# Altium schematic symbol library T5_Turn_Down_For_Watt.SchLib: 71 symbols (part 3 of 3)
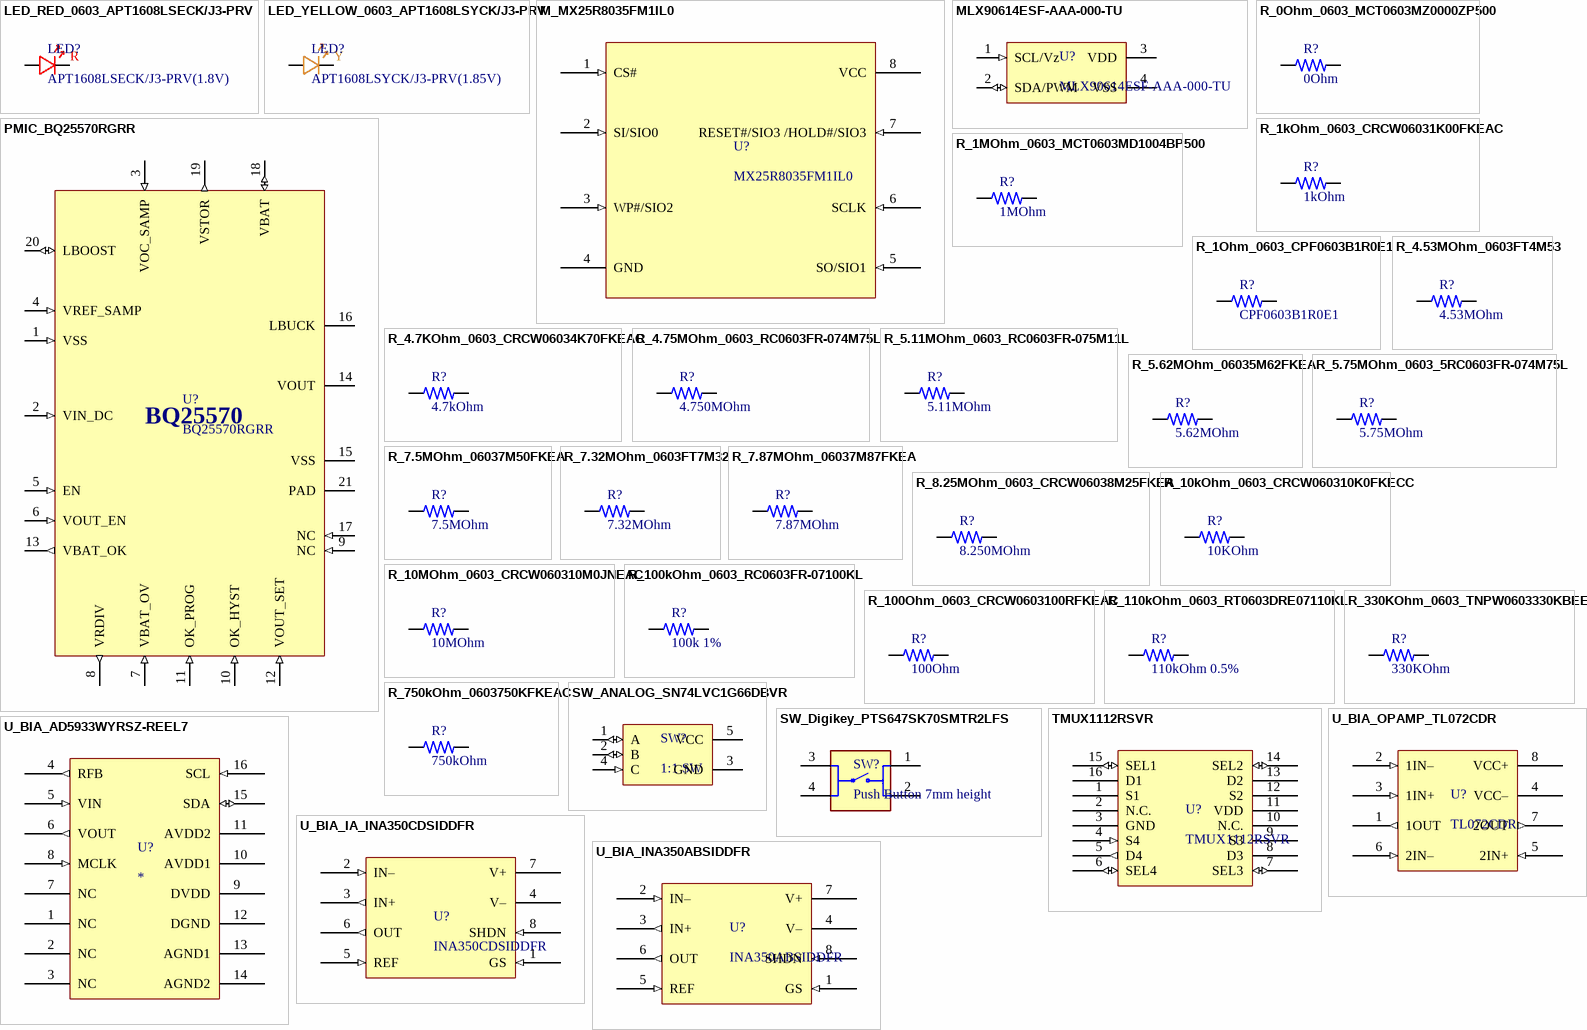
[diagram p3: symbols LED_RED_0603_APT1608LSECK/J3-PRV to U_BIA_OPAMP_TL072CDR]

## SW_ANALOG_SN74LVC1G66DBVR
designator SW?, comment 1:1 SW
1 Circuit IC Switch 1:1 10 Ohm SOT-23-5; Manufacturer: Texas Instruments; Manufacturer Part Number: SN74LVC1G66DBVR; Output Current: 50mA; Max Supply Voltage: 5.5V; Min Supply Voltage: 1.65V; Number of Channels: 1; Bandwidth: 195MHz; Nominal Supply Current: 1uA; On-State Resistance: 10R; Operating Supply Current: 10uA; Turn-On Delay Time: 4.2ns; Turn-Off Delay Time: 5ns; Throw Configuration: SPST; Supply Type: Single; Polarity: Non-Inverting; Propagation Delay: 600ps; Supplier 1: Digi-Key; RoHS: Yes; Category: Interface ICs; Stock 1: 52083; Pricing 1: 1=0.48000, 10=0.36200, 25=0.32640, 100=0.22560, 250=0.18996, 500=0.15434, 1000=0.11872 (USD); Mount: Surface Mount; Case/Package: SOT-23; Number of Pins: 5; Weight: 0.000395oz; Contact Plating: Gold; Min Operating Temperature: -40°C; Max Operating Temperature: 85°C; Packaging: Tape and Reel; Number of Inputs: 1; Number of Outputs: 1; Package Quantity: 3000; Max Supply Current: 10uA; Termination: SMD/SMT; Number of Bits: 1; High Level Output Current: 50mA; Low Level Output Current: 50mA; Series: 74LVC; Supply Current: 1uA; Length: 3.05mm; Width: 1.75mm; Height: 1.3mm; Radiation Hardening: No; REACH SVHC: No SVHC; Lead Free: Lead Free; RoHS Compliant: Yes; ComponentLink1URL: https://datasheet.ciiva.com/1582/1768037-1582385.pdf?src-supplier=Farnell; ComponentLink1Description: https://datasheet.ciiva.com/1582/1768037-1582385.pdf?src-supplier=Farnell; ComponentLink2URL: https://datasheet.ciiva.com/27049/756828-27049785.pdf?src-supplier=Jameco; ComponentLink2Description: https://datasheet.ciiva.com/27049/756828-27049785.pdf?src-supplier=Jameco; ComponentLink3URL: https://datasheet.ciiva.com/15127/getdatasheetpartid-187019-15127385.pdf?src-supplier=Verical; ComponentLink3Description: https://datasheet.ciiva.com/15127/getdatasheetpartid-187019-15127385.pdf?src-supplier=Verical; ComponentLink4URL: https://datasheet.ciiva.com/41461/001187213-da-01-en-ic-switch-1-sn74lvc1g66dbvr-sot-23-5-tid-41461873.pdf?src-supplier=Conrad; ComponentLink4Description: https://datasheet.ciiva.com/41461/001187213-da-01-en-ic-switch-1-sn74lvc1g66dbvr-sot-23-5-tid-41461873.pdf?src-supplier=Conrad; ComponentLink5URL: https://datasheet.ciiva.com/1514/1856046-1514552.pdf?src-supplier=Element14; ComponentLink5Description: https://datasheet.ciiva.com/1514/1856046-1514552.pdf?src-supplier=Element14; ComponentLink6URL: https://datasheet.ciiva.com/1514/1856046-1514551.pdf?src-supplier=Element14; ComponentLink6Description: https://datasheet.ciiva.com/1514/1856046-1514551.pdf?src-supplier=Element14; ComponentLink7URL: https://datasheet.ciiva.com/1669/sn74lvc1g66-1669420.pdf?src-supplier=Digi-Key; ComponentLink7Description: https://datasheet.ciiva.com/1669/sn74lvc1g66-1669420.pdf?src-supplier=Digi-Key; ComponentLink8URL: https://datasheet.ciiva.com/1669/sn74lvc1g66-1669419.pdf?src-supplier=Digi-Key; ComponentLink8Description: https://datasheet.ciiva.com/1669/sn74lvc1g66-1669419.pdf?src-supplier=Digi-Key; ComponentLink9URL: https://datasheet.ciiva.com/1669/sn74lvc1g66-1669421.pdf?src-supplier=Digi-Key; ComponentLink9Description: https://datasheet.ciiva.com/1669/sn74lvc1g66-1669421.pdf?src-supplier=Digi-Key
footprint ANALOG_SW_TI_SOT95P280X145-5N (SOT23, 5-Leads, Body 2.90x2.80mm, Pitch 0.95mm, IPC Medium Density)
pins: 1 A (io) "Bidirectional signal to be switched", 2 B (io) "Bidirectional signal to be switched", 3 GND (power) "Ground pin", 4 C (in) "Controls the switch (L = OFF, H = ON)", 5 VCC (power) "Power pin"

## SW_Digikey_PTS647SK70SMTR2LFS
designator SW?, comment Push Button 7mm height
Switch Tactile N.O. SPST Round Button Gull Wing 0.05A 12VDC 100000Cycles 2.45N SMD T/R; Manufacturer: ITT C&K; Manufacturer Part Number: PTS647SK70SMTR2LFS; Illumination Type: Non-Illuminated; Switch Function: Off-Mom; Actuator Type: Standard; Operating Force: 250gf; Switch Travel: 0.25mm; Ratings: IP40; Supplier 1: Digi-Key; RoHS: No; Category: Tactile Switches; Stock 1: 384316; Pricing 1: 1=0.21000, 10=0.20200, 25=0.19120, 100=0.17390, 250=0.16344, 500=0.14954 (USD); Mount: Surface Mount; Mechanical Life: 100000Cycles; Min Operating Temperature: -20°C; Max Operating Temperature: 70°C; Throw Configuration: SPST; Packaging: Cut Tape; Termination: Gull Wing; ComponentLink1URL: https://www.ckswitches.com/media/2567/pts647.pdf?src-supplier=Digi-Key; ComponentLink1Description: https://www.ckswitches.com/media/2567/pts647.pdf?src-supplier=Digi-Key
footprint SW_DIGIKEY
pins: 1, 2, 3, 4 24

## TMUX1112RSVR
designator U?
3-pA on-state leakage current, 5-V, 1: 1 (SPST), 4-channel precision switch (4 active high) 16-UQFN -40 to 125; Manufacturer: Texas Instruments; Supplier 1: Digi-Key; Manufacturer Part Number: TMUX1112RSVR; RoHS: Yes; Category: Interface ICs; Stock 1: 16202; Pricing 1: 1=3.34000, 10=3.00000, 25=2.83560, 100=2.45770, 250=2.33164, 500=2.09216, 1000=1.90240 (USD)
footprint QFN127P600-8N - duplicate1
pins: 1 S1 "Source pin 1. Can be an input or output.", 2 N.C. "No internal connection.", 3 GND "Ground (0 V) reference", 4 S4 (in) "Source pin 4. Can be an input or output.", 5 D4 (out) "Drain pin 4. Can be an input or output.", 6 SEL4 (io) "Logic control input 4. Controls channel 4 state as shown in Truth Tables.", 7 SEL3 (io) "Logic control input 3. Controls channel 3 state as shown in Truth Tables.", 8 D3 "Drain pin 3. Can be an input or output.", 9 S3 "Source pin 3. Can be an input or output.", 10 N.C. "No internal connection.", 11 VDD (power) "Positive power supply. This pin is the most positive power-supply potential. For reliable operation, connect a decoupling capacitor ranging from 0.1 μF to 10 μF between VDD and GND.", 12 S2 "Source pin 2. Can be an input or output.", 13 D2 "Drain pin 2. Can be an input or output.", 14 SEL2 (io) "Logic control input 2. Controls channel 2 state as shown in Truth Tables.", 15 SEL1 (io) "Logic control input 1. Controls channel 1 state as shown in Truth Tables.", 16 D1 "Drain pin 1. Can be an input or output."

## U_BIA_AD5933WYRSZ-REEL7
designator U?
Direct Digital Synthesizer 16.776MHz 1-DAC 12bit Serial (I2C) Automotive 16-Pin SSOP T/R; Manufacturer: Analog Devices; Manufacturer Part Number: AD5933WYRSZ-REEL7; Nominal Supply Current: 15mA; Resolution: 12b; Accuracy: 0.5%; Sampling Rate: 1MS/s; Supplier 1: Digi-Key; RoHS: Yes; Category: Digital to Analog Converters (DACs); Number of Pins: 16; Frequency: 16.776MHz; Operating Supply Current: 15mA; Lead Free: Contains Lead; RoHS Compliant: Yes; ComponentLink1URL: https://www.analog.com/media/en/technical-documentation/white-papers/tape-and-reel-packaging.pdf?src-supplier=Digi-Key; ComponentLink1Description: https://www.analog.com/media/en/technical-documentation/white-papers/tape-and-reel-packaging.pdf?src-supplier=Digi-Key
footprint AD5933YRSZ_SOP65P780X200-16N (SOP, 16-Leads, Body 6.20x5.30mm, Pitch 0.65mm, IPC Medium Density)
pins: 1 NC "No Connect", 2 NC "No Connect", 3 NC "No Connect", 4 RFB (out) "External Feedback Resistor. Connected from Pin 4 to Pin 5 and used to set the gain of the current-to-voltage", 5 VIN (in) "Input to Receive Transimpedance Amplifier. Presents a virtual earth voltage of VDD/2.", 6 VOUT (out) "Excitation Voltage Signal Output.", 7 NC "No Connect", 8 MCLK (in) "The master clock for the system is supplied by the user.", 9 DVDD (power) "Digital Supply Voltage.", 10 AVDD1 (power) "Analog Supply Voltage 1.", 11 AVDD2 (power) "Analog Supply Voltage 2.", 12 DGND (power) "Digital Ground.", 13 AGND1 (power) "Analog Ground 1.", 14 AGND2 (power) "Analog Ground 2.", 15 SDA (io) "I 2 C Data Input. Open-drain pins requiring 10 kΩ pull-up resistors to VDD", 16 SCL (in) "I 2 C Clock Input. Open-drain pins requiring 10 kΩ pull-up resistors to VDD."

## U_BIA_IA_INA350CDSIDDFR
designator U?, comment INA350CDSIDDFR
Tiny (2-mm × 2-mm), low-power (100 µA), selectable gain instrumentation amplifier 8-SOT-23-THIN -40 to 125; Manufacturer: Texas Instruments; Supplier 1: Digi-Key; Manufacturer Part Number: INA350CDSIDDFR; RoHS: No; Category: Amplifiers - Op Amps, Buffer, Instrumentation; Stock 1: 2781; Pricing 1: 1=0.65000, 10=0.55600, 25=0.51920, 100=0.41550, 250=0.38584, 500=0.32648, 1000=0.25228 (USD)
footprint BIA_INA350_SOT65P280X110-6N (SOT23, 6-Leads, Body 2.90x2.80mm, Pitch 0.65mm, IPC Medium Density)
pins: 1 GS (in) "Gain select – logic low (G = 10 for INA350ABS and G = 30 for INA350CDS), Gain select – logic high (G = 20 for INA350ABS and G = 50 for INA350CDS), Gain select – no connect (G = 20 for INA350ABS and G = 50 for INA350CDS)", 2 IN– (in) "Negative (inverting) input", 3 IN+ (out) "Positive (non-inverting) input", 4 V– (power) "Negative supply", 5 REF (in) "Reference input. This pin must be driven by a low impedance source.", 6 OUT (out) "Output", 7 V+ (power) "Positive supply", 8 SHDN (in) "Shutdown – logic high (device enabled), Shutdown – logic low (device disabled), Shutdown – no connect (device enabled)"

## U_BIA_INA350ABSIDDFR
designator U?, comment INA350ABSIDDFR
Tiny (2-mm × 2-mm), low-power (100 µA), selectable gain instrumentation amplifier 8-SOT-23-THIN -40 to 125; Manufacturer: Texas Instruments; Supplier 1: Digi-Key; Manufacturer Part Number: INA350ABSIDDFR; RoHS: No; Stock 1: 770; Pricing 1: 1=0.65000, 10=0.55600, 25=0.51920, 100=0.41550, 250=0.38584, 500=0.32648, 1000=0.25228 (USD)
footprint BIA_INA350_SOT65P280X110-6N (SOT23, 6-Leads, Body 2.90x2.80mm, Pitch 0.65mm, IPC Medium Density)
pins: 1 GS (in) "Gain select – logic low (G = 10 for INA350ABS and G = 30 for INA350CDS), Gain select – logic high (G = 20 for INA350ABS and G = 50 for INA350CDS), Gain select – no connect (G = 20 for INA350ABS and G = 50 for INA350CDS)", 2 IN– (in) "Negative (inverting) input", 3 IN+ (out) "Positive (non-inverting) input", 4 V– (power) "Negative supply", 5 REF (in) "Reference input. This pin must be driven by a low impedance source.", 6 OUT (out) "Output", 7 V+ (power) "Positive supply", 8 SHDN (in) "Shutdown – logic high (device enabled), Shutdown – logic low (device disabled), Shutdown – no connect (device enabled)"

## U_BIA_OPAMP_TL072CDR
designator U?, comment TL072CDR
J-FET Amplifier 2 Circuit  8-SOIC; Manufacturer: Texas Instruments; Dual Supply Voltage: 9V; Voltage Gain: 106.02dB; Unity Gain Bandwidth Product: 3MHz; Max Supply Voltage: 18V; Min Dual Supply Voltage: 3.5V; Nominal Supply Current: 5mA; Common Mode Rejection Ratio: 70dB; Number of Channels: 2; Slew Rate: 13V/µs; Max I/O Voltage: 10mV; Input Bias Current: 200pA; Operating Supply Current: 1.4mA; Supplier 1: Digi-Key; Manufacturer Part Number: TL072CDR; RoHS: Yes; Category: Amplifiers - Op Amps, Buffer, Instrumentation; Stock 1: 85014; Pricing 1: 1=0.42000, 10=0.35800, 25=0.33400, 100=0.26710, 250=0.24804, 500=0.20988, 1000=0.16218 (USD); Case/Package: D; Number of Pins: 8; Contact Plating: Gold; Min Operating Temperature: -40°C; Max Operating Temperature: 85°C; Package Quantity: 1; Packaging: Tape and Reel; Max Dual Supply Voltage: 18V; Bandwidth: 3MHz; Nominal Gain Bandwidth Product: 3MHz; Number of Circuits: 2; Gain Bandwidth Product: 3MHz; Input Offset Voltage (Vos): 10mV; Number of Elements: 2; Number of Amplifiers: 2; Length: 4.9mm; Width: 3.91mm; Height: 1.58mm; Radiation Hardening: No; Reach SVHC Compliant: No SVHC; Lead Free: Lead Free; RoHS Compliant: Yes; ComponentLink1URL: https://datasheet.ciiva.com/1795/tl071a-1795600.pdf?src-supplier=Digi-Key; ComponentLink1Description: https://datasheet.ciiva.com/1795/tl071a-1795600.pdf?src-supplier=Digi-Key; ComponentLink2URL: https://datasheet.ciiva.com/46392/1882732-46392284.pdf?src-supplier=Element14; ComponentLink2Description: https://datasheet.ciiva.com/46392/1882732-46392284.pdf?src-supplier=Element14; ComponentLink3URL: https://datasheet.ciiva.com/1795/tl071a-1795599.pdf?src-supplier=Digi-Key; ComponentLink3Description: https://datasheet.ciiva.com/1795/tl071a-1795599.pdf?src-supplier=Digi-Key; ComponentLink4URL: https://datasheet.ciiva.com/1795/tl071a-1795598.pdf?src-supplier=Digi-Key; ComponentLink4Description: https://datasheet.ciiva.com/1795/tl071a-1795598.pdf?src-supplier=Digi-Key; ComponentLink5URL: https://datasheet.ciiva.com/7709/1862384-7709919.pdf?src-supplier=Element14; ComponentLink5Description: https://datasheet.ciiva.com/7709/1862384-7709919.pdf?src-supplier=Element14; ComponentLink6URL: https://datasheet.ciiva.com/2974/tl074-2974203.pdf?src-supplier=Avnet; ComponentLink6Description: https://datasheet.ciiva.com/2974/tl074-2974203.pdf?src-supplier=Avnet
footprint TL072CDR_SOIC127P600X175-8N (SOIC, 8-Leads, Body 4.91x3.90mm, Pitch 1.27mm, IPC Medium Density)
pins: 1 1OUT (out) "Output", 2 1IN– (in) "Inverting input", 3 1IN+ (in) "Noninverting input", 4 VCC– (power) "Power supply", 5 2IN+ (in) "Noninverting input", 6 2IN– (in) "Inverting input", 7 2OUT (out) "Output", 8 VCC+ (power) "Power supply"